# EAGLE library part 74HC595PW,118 (library NXP-74HC595PW_118)
shift register with output latches
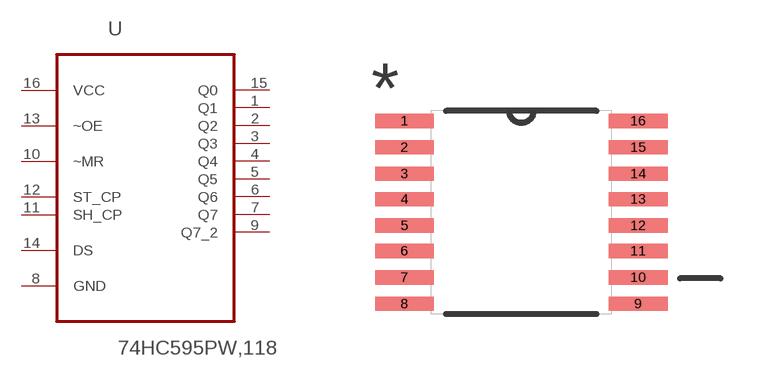
[diagram p0: symbol with the pads of SOP65P640X110-16N; footprint SOP65P640X110-16N]

Designator prefix U

## 74HC595PW,118 (MPN: 74HC595PW,118; OC_FARNELL: 1826846; OC_NEWARK: 78R6263; PACKAGE: TSSOP-16; SUPPLIER: NXP)  [SOP65P640X110-16N]
1  Q1  out
2  Q2  out
3  Q3  out
4  Q4  out
5  Q5  out
6  Q6  out
7  Q7  out
8  GND  pas
9  Q7_2  out
10  ~MR  in
11  SH_CP  in
12  ST_CP  in
13  ~OE  in
14  DS  in
15  Q0  out
16  VCC  pwr

## Footprint SOP65P640X110-16N (pad centres in mm)
smd 1.473 x 0.356: 1 -2.921,2.286; 2 -2.921,1.626; 3 -2.921,0.965; 4 -2.921,0.33; 5 -2.921,-0.33; 6 -2.921,-0.965; 7 -2.921,-1.626; 8 -2.921,-2.286; 9 2.921,-2.286; 10 2.921,-1.626; 11 2.921,-0.965; 12 2.921,-0.33; 13 2.921,0.33; 14 2.921,0.965; 15 2.921,1.626; 16 2.921,2.286